# Altium footprint library LEDM3020X140N.PcbLib: 1 footprints
Each footprint in its own frame and in the unit in brackets; x right, y up, seen from the top. Pads: shape width x height; smd on the part's side, far side on the other; paste and mask are expansions set on the pad; w line width, h text height; cw(c..) or ccw(c..) is an arc to the next point about the centre after c.
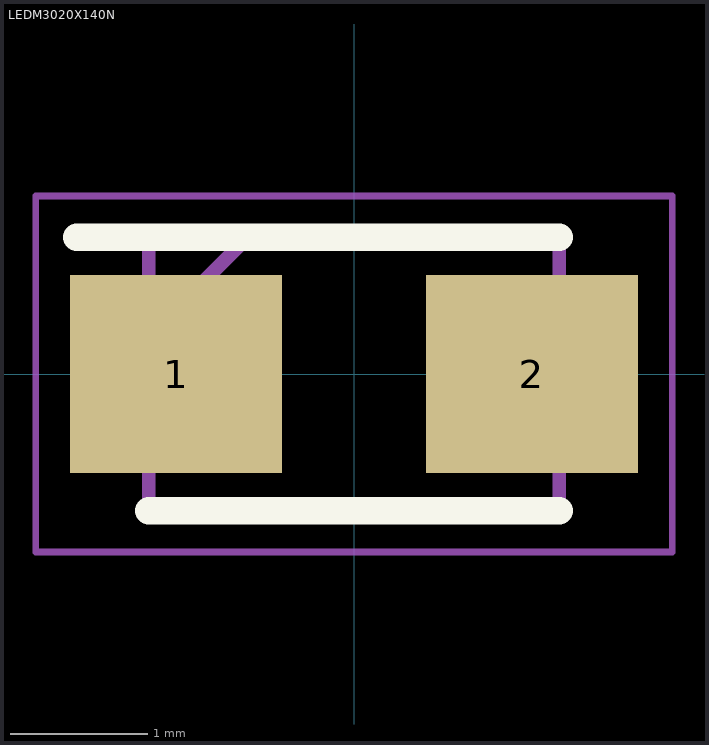
[diagram p0: the footprint, top view; thin cyan lines are the x and y axes]

## LEDM3020X140N [mm]
pads (2):
  rect 1.55x1.45 smd: 1(-1.3,0) 2(1.3,0)
Top Overlay:
  lines w0.2: -2.025,1 1.5,1 ; -1.5,-1 1.5,-1
Mechanical 15:
  lines w0.1: -1.5,0.275 -0.775,1 ; -1.5,-1 -1.5,1 1.5,1 1.5,-1 -1.5,-1
Mechanical 20:
  lines w0.05: -2.325,-1.3 -2.325,1.3 2.325,1.3 2.325,-1.3 -2.325,-1.3
3D body "KPA-3010CGCK-Base.SLDPRT": height 2.01, standoff 0.01, extent -1.5,-0.492 1.5,0.508